# Altium footprint library BGA.PcbLib: 1 footprints
Each footprint in its own frame and in the unit in brackets; x right, y up, seen from the top. Pads: shape width x height; smd on the part's side, far side on the other; paste and mask are expansions set on the pad; w line width, h text height; cw(c..) or ccw(c..) is an arc to the next point about the centre after c.
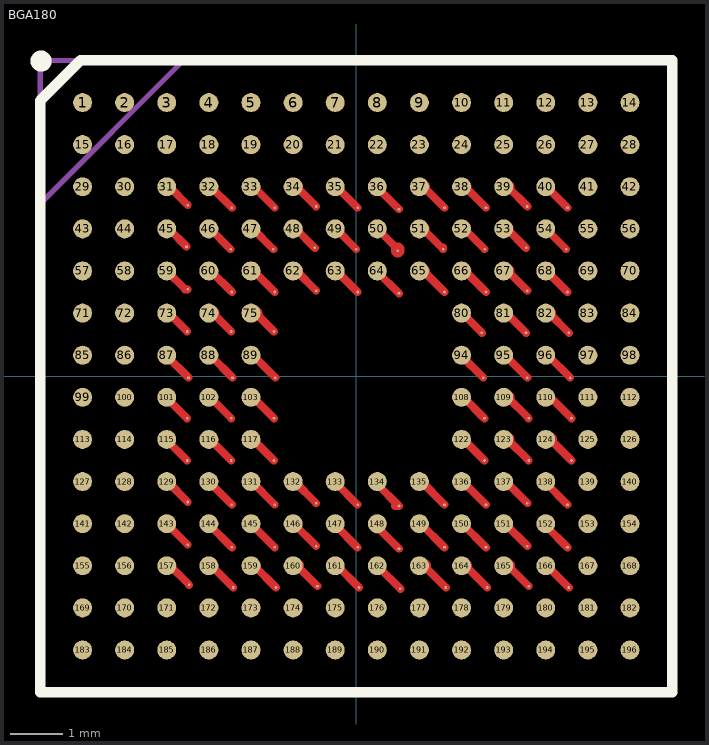
[diagram p0: the footprint, top view; thin cyan lines are the x and y axes]

## BGA180 [mm]
pads (180):
  round 0.36 smd mask+0.05: 1(-5.2,5.2) 2(-4.4,5.2) 3(-3.6,5.2) 4(-2.8,5.2) 5(-2,5.2) 6(-1.2,5.2) 7(-0.4,5.2) 8(0.4,5.2) 9(1.2,5.2) 10(2,5.2) 11(2.8,5.2) 12(3.6,5.2) 13(4.4,5.2) 14(5.2,5.2) 15(-5.2,4.4) 16(-4.4,4.4) 17(-3.6,4.4) 18(-2.8,4.4) 19(-2,4.4) 20(-1.2,4.4) 21(-0.4,4.4) 22(0.4,4.4) 23(1.2,4.4) 24(2,4.4) 25(2.8,4.4) 26(3.6,4.4) 27(4.4,4.4) 28(5.2,4.4) 29(-5.2,3.6) 30(-4.4,3.6) 31(-3.6,3.6) 32(-2.8,3.6) 33(-2,3.6) 34(-1.2,3.6) 35(-0.4,3.6) 36(0.4,3.6) 37(1.2,3.6) 38(2,3.6) 39(2.8,3.6) 40(3.6,3.6) 41(4.4,3.6) 42(5.2,3.6) 43(-5.2,2.8) 44(-4.4,2.8) 45(-3.6,2.8) 46(-2.8,2.8) 47(-2,2.8) 48(-1.2,2.8) 49(-0.4,2.8) 50(0.4,2.8) 51(1.2,2.8) 52(2,2.8) 53(2.8,2.8) 54(3.6,2.8) 55(4.4,2.8) 56(5.2,2.8) 57(-5.2,2) 58(-4.4,2) 59(-3.6,2) 60(-2.8,2) 61(-2,2) 62(-1.2,2) 63(-0.4,2) 64(0.4,2) 65(1.2,2) 66(2,2) 67(2.8,2) 68(3.6,2) 69(4.4,2) 70(5.2,2) 71(-5.2,1.2) 72(-4.4,1.2) 73(-3.6,1.2) 74(-2.8,1.2) 75(-2,1.2) 80(2,1.2) 81(2.8,1.2) 82(3.6,1.2) 83(4.4,1.2) 84(5.2,1.2) 85(-5.2,0.4) 86(-4.4,0.4) 87(-3.6,0.4) 88(-2.8,0.4) 89(-2,0.4) 94(2,0.4) 95(2.8,0.4) 96(3.6,0.4) 97(4.4,0.4) 98(5.2,0.4) 99(-5.2,-0.4) 100(-4.4,-0.4) 101(-3.6,-0.4) 102(-2.8,-0.4) 103(-2,-0.4) 108(2,-0.4) 109(2.8,-0.4) 110(3.6,-0.4) 111(4.4,-0.4) 112(5.2,-0.4) 113(-5.2,-1.2) 114(-4.4,-1.2) 115(-3.6,-1.2) 116(-2.8,-1.2) 117(-2,-1.2) 122(2,-1.2) 123(2.8,-1.2) 124(3.6,-1.2) 125(4.4,-1.2) 126(5.2,-1.2) 127(-5.2,-2) 128(-4.4,-2) 129(-3.6,-2) 130(-2.8,-2) 131(-2,-2) 132(-1.2,-2) 133(-0.4,-2) 134(0.4,-2) 135(1.2,-2) 136(2,-2) 137(2.8,-2) 138(3.6,-2) 139(4.4,-2) 140(5.2,-2) 141(-5.2,-2.8) 142(-4.4,-2.8) 143(-3.6,-2.8) 144(-2.8,-2.8) 145(-2,-2.8) 146(-1.2,-2.8) 147(-0.4,-2.8) 148(0.4,-2.8) 149(1.2,-2.8) 150(2,-2.8) 151(2.8,-2.8) 152(3.6,-2.8) 153(4.4,-2.8) 154(5.2,-2.8) 155(-5.2,-3.6) 156(-4.4,-3.6) 157(-3.6,-3.6) 158(-2.8,-3.6) 159(-2,-3.6) 160(-1.2,-3.6) 161(-0.4,-3.6) 162(0.4,-3.6) 163(1.2,-3.6) 164(2,-3.6) 165(2.8,-3.6) 166(3.6,-3.6) 167(4.4,-3.6) 168(5.2,-3.6) 169(-5.2,-4.4) 170(-4.4,-4.4) 171(-3.6,-4.4) 172(-2.8,-4.4) 173(-2,-4.4) 174(-1.2,-4.4) 175(-0.4,-4.4) 176(0.4,-4.4) 177(1.2,-4.4) 178(2,-4.4) 179(2.8,-4.4) 180(3.6,-4.4) 181(4.4,-4.4) 182(5.2,-4.4) 183(-5.2,-5.2) 184(-4.4,-5.2) 185(-3.6,-5.2) 186(-2.8,-5.2) 187(-2,-5.2) 188(-1.2,-5.2) 189(-0.4,-5.2) 190(0.4,-5.2) 191(1.2,-5.2) 192(2,-5.2) 193(2.8,-5.2) 194(3.6,-5.2) 195(4.4,-5.2) 196(5.2,-5.2)
via -3.226,2.464 diameter 0.05 hole 0.01
via -2.388,2.413 diameter 0.05 hole 0.01
via -1.575,2.413 diameter 0.05 hole 0.01
via -0.787,2.438 diameter 0.05 hole 0.01
via 0,2.413 diameter 0.05 hole 0.01
via 0.787,2.388 diameter 0.05 hole 0.01
via 1.651,2.413 diameter 0.05 hole 0.01
via 2.438,2.413 diameter 0.05 hole 0.01
via 3.226,2.438 diameter 0.05 hole 0.01
via 3.988,2.413 diameter 0.05 hole 0.01
via -3.2,-2.388 diameter 0.05 hole 0.01
via -2.362,-2.438 diameter 0.05 hole 0.01
via -1.549,-2.438 diameter 0.05 hole 0.01
via -0.762,-2.413 diameter 0.05 hole 0.01
via 0.025,-2.438 diameter 0.05 hole 0.01
via 0.813,-2.464 diameter 0.05 hole 0.01
via 1.676,-2.438 diameter 0.05 hole 0.01
via 2.464,-2.438 diameter 0.05 hole 0.01
via 3.251,-2.413 diameter 0.05 hole 0.01
via 4.013,-2.438 diameter 0.05 hole 0.01
via -3.2,-3.2 diameter 0.05 hole 0.01
via -2.362,-3.251 diameter 0.05 hole 0.01
via -1.549,-3.251 diameter 0.05 hole 0.01
via -0.762,-3.226 diameter 0.05 hole 0.01
via 0.025,-3.251 diameter 0.05 hole 0.01
via 0.813,-3.277 diameter 0.05 hole 0.01
via 1.676,-3.251 diameter 0.05 hole 0.01
via 2.464,-3.251 diameter 0.05 hole 0.01
via 3.251,-3.226 diameter 0.05 hole 0.01
via 4.013,-3.251 diameter 0.05 hole 0.01
via -3.175,-3.962 diameter 0.05 hole 0.01
via -2.337,-4.013 diameter 0.05 hole 0.01
via -1.524,-4.013 diameter 0.05 hole 0.01
via -0.737,-3.988 diameter 0.05 hole 0.01
via 0.051,-4.013 diameter 0.05 hole 0.01
via 0.838,-4.039 diameter 0.05 hole 0.01
via 1.702,-4.013 diameter 0.05 hole 0.01
via 2.489,-4.013 diameter 0.05 hole 0.01
via 3.277,-3.988 diameter 0.05 hole 0.01
via 4.039,-4.013 diameter 0.05 hole 0.01
via -3.2,3.251 diameter 0.05 hole 0.01
via -2.362,3.2 diameter 0.05 hole 0.01
via -1.549,3.2 diameter 0.05 hole 0.01
via -0.762,3.226 diameter 0.05 hole 0.01
via 0.025,3.2 diameter 0.05 hole 0.01
via 0.813,3.175 diameter 0.05 hole 0.01
via 1.676,3.2 diameter 0.05 hole 0.01
via 2.464,3.2 diameter 0.05 hole 0.01
via 3.251,3.226 diameter 0.05 hole 0.01
via 4.013,3.2 diameter 0.05 hole 0.01
via -3.2,1.651 diameter 0.05 hole 0.01
via -2.362,1.6 diameter 0.05 hole 0.01
via -1.549,1.6 diameter 0.05 hole 0.01
via -0.762,1.626 diameter 0.05 hole 0.01
via 0.025,1.6 diameter 0.05 hole 0.01
via 0.813,1.575 diameter 0.05 hole 0.01
via 1.676,1.6 diameter 0.05 hole 0.01
via 2.464,1.6 diameter 0.05 hole 0.01
via 3.251,1.626 diameter 0.05 hole 0.01
via 4.013,1.6 diameter 0.05 hole 0.01
via -3.213,0.85 diameter 0.05 hole 0.01
via -2.375,0.85 diameter 0.05 hole 0.01
via -1.562,0.85 diameter 0.05 hole 0.01
via -3.188,-0.025 diameter 0.05 hole 0.01
via -2.35,-0.025 diameter 0.05 hole 0.01
via -1.537,-0.025 diameter 0.05 hole 0.01
via -3.213,-0.8 diameter 0.05 hole 0.01
via -2.375,-0.8 diameter 0.05 hole 0.01
via -1.562,-0.8 diameter 0.05 hole 0.01
via -3.213,-1.6 diameter 0.05 hole 0.01
via -2.375,-1.6 diameter 0.05 hole 0.01
via -1.562,-1.6 diameter 0.05 hole 0.01
via 2.387,0.825 diameter 0.05 hole 0.01
via 3.225,0.825 diameter 0.05 hole 0.01
via 4.038,0.825 diameter 0.05 hole 0.01
via 2.412,-0.025 diameter 0.05 hole 0.01
via 3.25,-0.025 diameter 0.05 hole 0.01
via 4.063,-0.025 diameter 0.05 hole 0.01
via 2.437,-0.8 diameter 0.05 hole 0.01
via 3.275,-0.8 diameter 0.05 hole 0.01
via 4.088,-0.8 diameter 0.05 hole 0.01
via 2.437,-1.6 diameter 0.05 hole 0.01
via 3.275,-1.6 diameter 0.05 hole 0.01
via 4.088,-1.6 diameter 0.05 hole 0.01
Top Layer:
  lines w0.15: -3.6,-2.801 -3.2,-3.2 ; -3.6,-1.213 -3.213,-1.6 ; -3.6,-0.413 -3.213,-0.8 ; -3.6,0.387 -3.188,-0.025 ; -3.6,2 -3.251,1.651 -3.2,1.651 ; -3.588,-2 -3.2,-2.388 ; -3.563,1.2 -3.213,0.85 ; -3.562,2.8 -3.226,2.464 ; -3.549,3.6 -3.2,3.251 ; -3.537,-3.6 -3.175,-3.962 ; -2.8,-2.813 -2.362,-3.251 ; -2.8,-2.001 -2.362,-2.438 ; -2.775,-1.2 -2.375,-1.6 ; -2.775,-0.4 -2.375,-0.8 ; -2.775,0.4 -2.35,-0.025 ; -2.775,2.8 -2.388,2.413 ; -2.762,2 -2.362,1.6 ; -2.762,3.6 -2.362,3.2 ; -2.75,-3.6 -2.337,-4.013 ; -2.725,1.2 -2.375,0.85 ; -2,-2.801 -1.549,-3.251 ; -1.988,-2 -1.549,-2.438 ; -1.962,-1.2 -1.562,-1.6 ; -1.962,-0.4 -1.562,-0.8 ; -1.962,0.4 -1.537,-0.025 ; -1.962,2.8 -1.575,2.413 ; -1.949,2 -1.549,1.6 ; -1.949,3.6 -1.549,3.2 ; -1.937,-3.6 -1.524,-4.013 ; -1.912,1.2 -1.562,0.85 ; -1.188,-2.8 -0.762,-3.226 ; -1.175,-2 -0.762,-2.413 ; -1.149,2.8 -0.787,2.438 ; -1.136,2 -0.762,1.626 ; -1.136,3.6 -0.762,3.226 ; -1.124,-3.6 -0.737,-3.988 ; -0.4,-2.826 0.025,-3.251 ; -0.4,-2.013 0.025,-2.438 ; -0.387,2.8 0,2.413 ; -0.374,2 0.025,1.6 ; -0.374,3.6 0.025,3.2 ; -0.362,-3.6 0.051,-4.013 ; 0.4,-3.6 0.838,-4.039 ; 0.4,-2.864 0.813,-3.277 ; 0.4,-2.051 0.813,-2.464 0.736,-2.464 ; 0.4,1.988 0.813,1.575 ; 0.4,3.588 0.813,3.175 ; 0.425,2.775 0.787,2.413 ; 1.225,-2.8 1.676,-3.251 ; 1.238,-2 1.676,-2.438 ; 1.264,2.8 1.651,2.413 1.651,2.451 ; 1.277,2 1.676,1.6 ; 1.277,3.6 1.676,3.2 ; 1.289,-3.6 1.702,-4.013 ; 2,0.387 2.412,-0.025 ; 2.012,1.2 2.387,0.825 ; 2.013,-2.8 2.464,-3.251 ; 2.025,-2 2.464,-2.438 ; 2.037,-1.2 2.437,-1.6 ; 2.037,-0.4 2.437,-0.8 ; 2.051,2.8 2.438,2.413 ; 2.064,2 2.464,1.6 ; 2.064,3.6 2.464,3.2 ; 2.076,-3.6 2.489,-4.013 ; 2.825,0.4 3.25,-0.025 ; 2.825,-2.8 3.251,-3.226 ; 2.838,-2 3.251,-2.413 ; 2.85,1.2 3.225,0.825 ; 2.864,2.8 3.226,2.438 ; 2.875,-1.2 3.275,-1.6 ; 2.875,-0.4 3.275,-0.8 ; 2.877,2 3.251,1.626 ; 2.877,3.6 3.251,3.226 ; 2.889,-3.6 3.277,-3.988 ; 3.6,-2.838 4.013,-3.251 ; 3.6,-2.025 4.013,-2.438 ; 3.6,-0.4 3.688,-0.4 4.088,-0.8 ; 3.601,2.8 3.988,2.413 ; 3.613,2 4.013,1.6 ; 3.614,3.6 4.013,3.2 ; 3.625,-3.6 4.039,-4.013 ; 3.638,0.4 4.063,-0.025 ; 3.663,1.2 4.038,0.825 ; 3.688,-1.2 4.088,-1.6
  lines w0.254: -3.6,-3.6 -3.537,-3.6 ; -3.6,-2 -3.588,-2 ; -3.6,-1.213 -3.6,-1.2 ; -3.6,-0.413 -3.6,-0.4 ; -3.6,0.387 -3.6,0.4 ; -3.6,1.2 -3.563,1.2 ; -3.6,3.6 -3.549,3.6 ; -2.8,-3.6 -2.75,-3.6 ; -2.8,-2.813 -2.8,-2.8 ; -2.8,-1.2 -2.775,-1.2 ; -2.8,-0.4 -2.775,-0.4 ; -2.8,0.4 -2.775,0.4 ; -2.8,1.2 -2.725,1.2 ; -2.8,2 -2.762,2 ; -2.8,2.8 -2.775,2.8 ; -2.8,3.6 -2.762,3.6 ; -2,-3.6 -1.937,-3.6 ; -2,-2 -1.988,-2 ; -2,-1.2 -1.962,-1.2 ; -2,-0.4 -1.962,-0.4 ; -2,0.4 -1.962,0.4 ; -2,1.2 -1.912,1.2 ; -2,2 -1.949,2 ; -2,3.6 -1.949,3.6 ; -1.2,-3.6 -1.124,-3.6 ; -1.2,-2.8 -1.188,-2.8 ; -1.2,-2 -1.175,-2 ; -1.2,2 -1.136,2 ; -1.2,2.8 -1.149,2.8 ; -1.2,3.6 -1.136,3.6 ; -0.4,-3.6 -0.362,-3.6 ; -0.4,-2.826 -0.4,-2.8 ; -0.4,-2.013 -0.4,-2 ; -0.4,2 -0.374,2 ; -0.4,2.8 -0.387,2.8 ; -0.4,3.6 -0.374,3.6 ; 0.4,-2.864 0.4,-2.8 ; 0.4,-2.051 0.4,-2 ; 0.4,1.988 0.4,2 ; 0.4,2.775 0.4,2.8 ; 0.4,3.588 0.4,3.6 ; 0.787,2.388 0.787,2.413 ; 1.2,-3.6 1.289,-3.6 ; 1.2,-2.8 1.225,-2.8 ; 1.2,-2 1.238,-2 ; 1.2,2 1.277,2 ; 1.2,2.8 1.264,2.8 ; 1.2,3.6 1.277,3.6 ; 2,-3.6 2.076,-3.6 ; 2,-2.8 2.013,-2.8 ; 2,-2 2.025,-2 ; 2,-1.2 2.037,-1.2 ; 2,-0.4 2.037,-0.4 ; 2,0.387 2,0.4 ; 2,1.2 2.012,1.2 ; 2,2 2.064,2 ; 2,2.8 2.051,2.8 ; 2,3.6 2.064,3.6 ; 2.8,-3.6 2.889,-3.6 ; 2.8,-2.8 2.825,-2.8 ; 2.8,-2 2.838,-2 ; 2.8,-1.2 2.875,-1.2 ; 2.8,0.4 2.825,0.4 ; 2.8,2 2.877,2 ; 2.8,2.8 2.864,2.8 ; 2.8,3.6 2.877,3.6 ; 3.6,-3.6 3.625,-3.6 ; 3.6,-2.838 3.6,-2.8 ; 3.6,-2.025 3.6,-2 ; 3.6,-1.2 3.688,-1.2 ; 3.6,0.4 3.638,0.4 ; 3.6,1.2 3.663,1.2 ; 3.6,2 3.613,2 ; 3.6,3.6 3.614,3.6 ; -3.6,2.8 -3.562,2.8 ; -3.6,2.8 -3.562,2.8 ; -3.6,2.8 -3.562,2.8 ; -3.6,-2.801 -3.6,-2.8 ; -2.8,-2.001 -2.8,-2 ; -2,-2.801 -2,-2.8 ; -2,2.8 -1.962,2.8 -2,2.8 ; 0.4,-3.6 0.4,-3.6 ; 2.8,-0.4 2.875,-0.4 2.8,-0.4 ; 2.8,1.2 2.85,1.2 2.8,1.2 ; 3.6,2.8 3.601,2.8
Top Overlay:
  circle w0.2: c-5.987,5.987 r0.1
  lines w0.2: -6,-6 6,-6 6,6 -5.238,6 -6,5.238 -6,-6
Mechanical 15:
  lines w0.1: -5.962,3.32 -3.27,6.013 ; -6.001,-6.001 6.001,-6.001 6.001,6 -6.001,6 -6.001,-6.001
3D body "LPC54608J512ET180.stp": height 1.2, standoff 0.02, extent -6,-6 6,6